# EAGLE library part 7-SEGMENT-8DIGIT-HP (library StdBxLibrary_BETA_)
BETA! SB0006 - This is a daughter-card module containing two hp 4 digit bubble displays and a shift register.
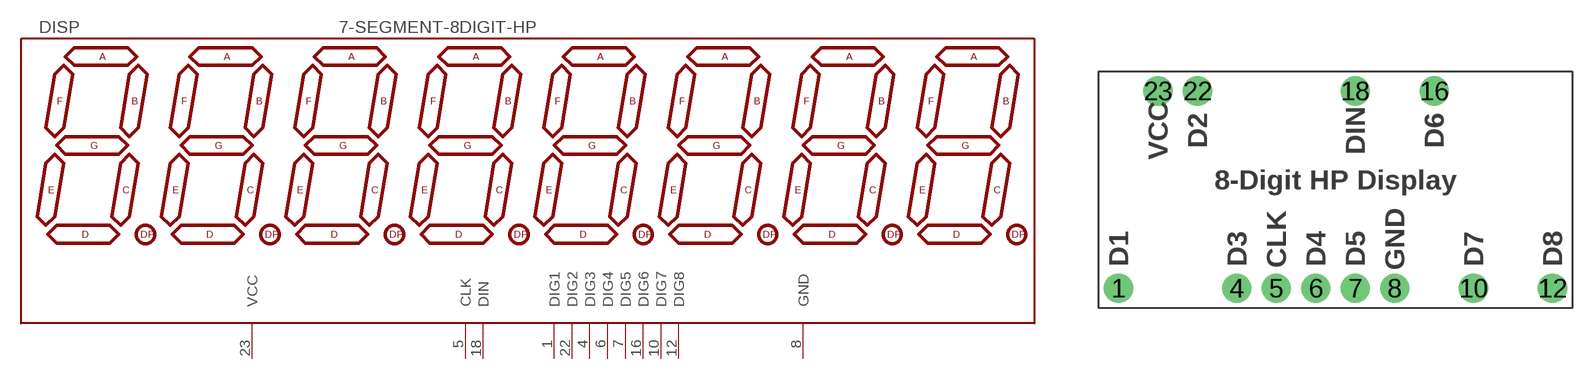
[diagram p3: symbol with the pads of HP-8DIGIT-SERIAL; footprint HP-8DIGIT-SERIAL]

Designator prefix DISP

## 7-SEGMENT-8DIGIT-HP  [HP-8DIGIT-SERIAL]
1  DIG1
4  DIG3
5  CLK
6  DIG4
7  DIG5
8  GND
10  DIG7
12  DIG8
16  DIG6
18  DIN
22  DIG2
23  VCC

## Footprint HP-8DIGIT-SERIAL (pad centres in mm)
drill 1.016 pad 1.88: 1 -13.97,-6.35; 4 -6.35,-6.35; 5 -3.81,-6.35; 6 -1.27,-6.35; 7 1.27,-6.35; 8 3.81,-6.35; 10 8.89,-6.35; 12 13.97,-6.35; 16 6.35,6.35; 18 1.27,6.35; 22 -8.89,6.35; 23 -11.43,6.35